# EAGLE library part LM2698 (library LearningByMaking2)
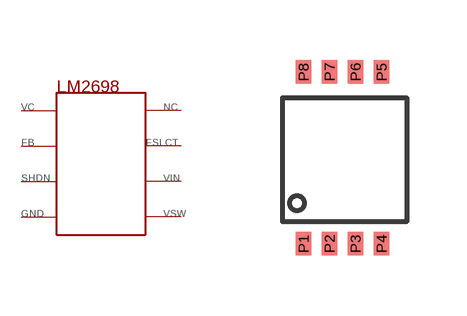
[diagram p1: symbol with the pads of 8VSSOP; footprint 8VSSOP]

Designator prefix -

## LM2698  [8VSSOP]
P1  1
P2  2
P3  3
P4  4
P5  5
P6  6
P7  7
P8  8

## Footprint 8VSSOP (pad centres in mm)
smd 0.38 x 0.6: P1 -0.975,-2.15; P2 -0.325,-2.15; P3 0.325,-2.15; P4 0.975,-2.15; P5 0.975,2.15; P6 0.325,2.15; P7 -0.325,2.15; P8 -0.975,2.15